# Altium schematic symbol library CMP-006-00020-3.Schlib: 1 symbol
Pins are listed as number, name and electrical type; pins without a type are passive.

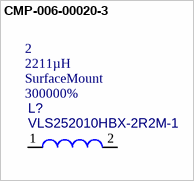
[diagram p0: symbol CMP-006-00020-3]

## CMP-006-00020-3
designator L?, comment VLS252010HBX-2R2M-1  value 2211µH  Tolerance: 300000%  Mounting Technology: SurfaceMount  Pins: 2
Inductor for Power Circuit, 2.4242422 uH, +/- 20%, -40 to 105 degC, 2-Pin SMD, RoHS, Tape and Reel
footprint SUSUMU-PCMB063T_V (SMD, 2-Leads, Body 7.8x6.7mm)
footprint TDK-VLS252010_V (SMD, 2-Leads, Body 2.5x2mm)
pins: 1, 2